# EAGLE library part 4R-NETWORK (library SKAARHOJ)
Array Chip Resistor Source: RS Component / Phycomp
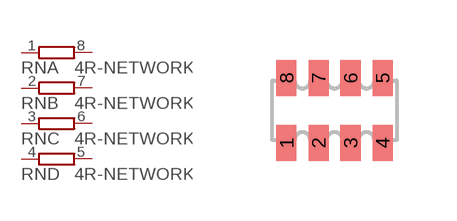
[diagram p4: symbol with the pads of CAY16_HAND; footprint CAY16_HAND]

Designator prefix RN; gates A=R1NV B=R1NV C=R1NV D=R1NV

## 4R-NETWORKCAY16 (OC_FARNELL: unknown; OC_NEWARK: unknown)  [CAY16_HAND]
1  A:1  pas
2  B:1  pas
3  C:1  pas
4  D:1  pas
5  D:2  pas
6  C:2  pas
7  B:2  pas
8  A:2  pas

## Footprint CAY16_HAND (pad centres in mm)
BOURNS Chip Resistor Array Source: RS Component / BUORNS
smd 0.5 x 0.904: 1 -1.2,-0.813; 2 -0.4,-0.813; 3 0.4,-0.813; 4 1.2,-0.813; 5 1.2,0.813; 6 0.4,0.813; 7 -0.4,0.813; 8 -1.2,0.813